# EAGLE library part IDC_14W (library libami)
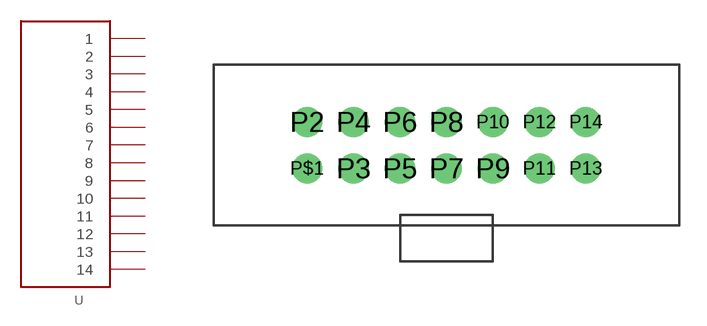
[diagram p17: symbol with the pads of 14W_IDC_BOX; footprint 14W_IDC_BOX]

Designator prefix -

## IDC_14W  [14W_IDC_BOX]
P2  2
P3  3
P4  4
P5  5
P6  6
P7  7
P8  8
P9  9
P10  10
P11  11
P12  12
P13  13
P14  14
P$1  1

## Footprint 14W_IDC_BOX (pad centres in mm)
drill 1.1: P2 0,2.54; P3 2.54,0; P4 2.54,2.54; P5 5.08,0; P6 5.08,2.54; P7 7.62,0; P8 7.62,2.54; P9 10.16,0; P10 10.16,2.54; P11 12.7,0; P12 12.7,2.54; P13 15.24,0; P14 15.24,2.54; P$1 0,0